# Altium footprint library Transistor_PcbLib.PcbLib: 6 footprints
Each footprint in its own frame and in the unit in brackets; x right, y up, seen from the top. Pads: shape width x height; smd on the part's side, far side on the other; paste and mask are expansions set on the pad; w line width, h text height; cw(c..) or ccw(c..) is an arc to the next point about the centre after c.
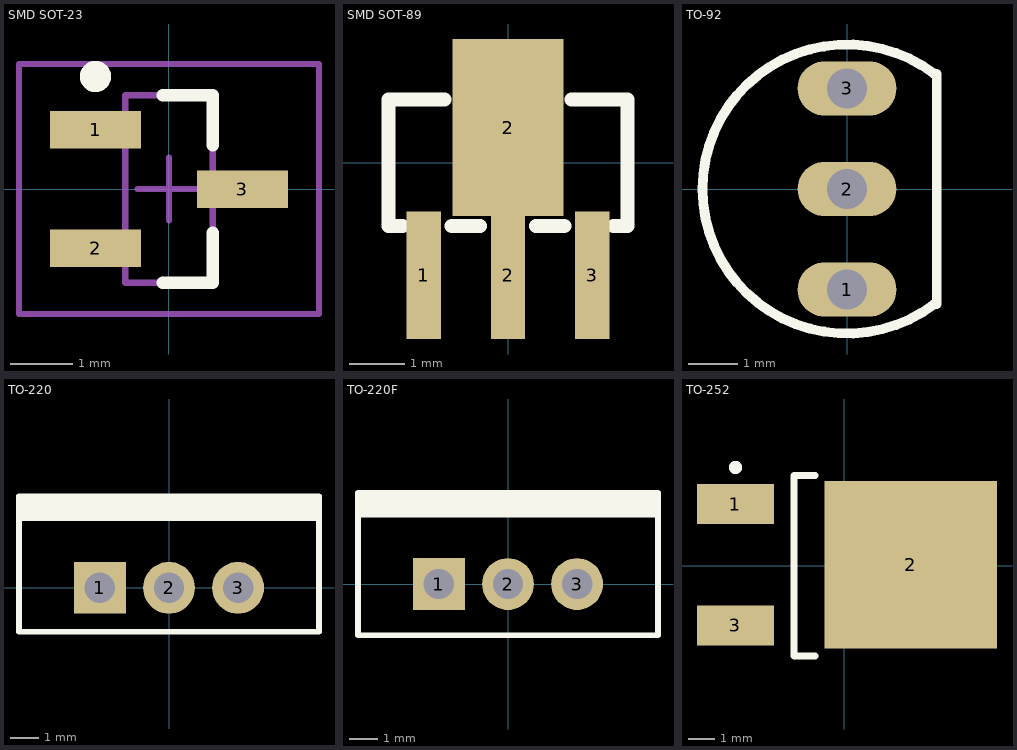
[diagram p0: the footprints below, top view; thin cyan lines are the x and y axes]

## SMD SOT-23 [mm] "SOT23, 3-Leads, Body"
height 1.14
pads (3):
  rect 1.45x0.6 smd: 1(-1.175,0.95) 2(-1.175,-0.95) 3(1.175,0)
Top Overlay:
  circle w0.25: c-1.175,1.8 r0.125
  lines w0.2: -0.1,-1.5 0.7,-1.5 0.7,-0.7 ; -0.1,1.5 0.7,1.5 0.7,0.7
Mechanical 13:
  lines w0.1: -0.7,-1.5 -0.7,1.5 0.7,1.5 0.7,-1.5 -0.7,-1.5
Mechanical 15:
  lines w0.1: -0.5,0 0.5,0 ; 0,-0.5 0,0.5 ; -2.4,-2 -2.4,2 2.4,2 2.4,-2 -2.4,-2
3D body: height 1.08, standoff 0, extent -1.32,-1.5 1.32,1.5

## SMD SOT-89 [mm] "SMD"
pads (4):
  rect 0.62x2.3 smd: 1(-1.524,-2.032) 2(0,-2.032) 3(1.524,-2.032)
  rect 2x3.2 smd: 2(0,0.635)
Top Overlay:
  lines w0.254: -1.905,-1.143 -2.159,-1.143 -2.159,1.143 -1.143,1.143 ; -1.016,-1.143 -0.508,-1.143 ; 0.508,-1.143 1.016,-1.143 ; 1.143,1.143 2.159,1.143 2.159,-1.143 1.905,-1.143
3D body: height 1.59, standoff -0.02, extent -2.318,-2.694 2.282,1.556

## TO-92 [mm]
pads (3):
  oval 2x1.1 hole 0.8: 1(0,-2.032) 2(0,0) 3(0,2.032)
Top Overlay:
  lines w0.2: 1.764,-2.328 cw(c0,0) 1.764,2.328 ; 1.814,-2.328 1.814,2.328
3D body: height 8.7, standoff -2.6, extent -2.3,-2.765 1.778,2.765

## TO-220 [mm]
pads (3):
  rect 1.8x1.8 hole 1.05: 1(-2.4,0)
  round 1.8 hole 1.05: 2(0,0) 3(2.4,0)
Top Overlay:
  rectangle: -5.207,2.413 5.207,3.175
  lines w0.2: -5.207,2.413 5.207,2.413 ; -5.207,-1.524 -5.207,3.175 5.207,3.175 5.207,-1.524 -5.207,-1.524
3D body: height 18.8, standoff -3.56, extent -5.08,-1.397 5.08,3.175

## TO-220F [mm]
pads (3):
  rect 1.8x1.8 hole 1.05: 1(-2.4,0)
  round 1.8 hole 1.05: 2(0,0) 3(2.4,0)
Top Overlay:
  rectangle: -5.207,2.413 5.207,3.175
  lines w0.2: -5.207,2.413 5.207,2.413 ; -5.207,-1.778 -5.207,3.175 5.207,3.175 5.207,-1.778 -5.207,-1.778
3D body: height 25.87, standoff -2.98, extent -5.07,-1.651 5.07,3.049

## TO-252 [mm]
height 4.69
pads (3):
  rect 2.9x1.5 smd: 1(-4.1,2.322) 3(-4.1,-2.25)
  rect 6.5x6.3 smd: 2(2.5,0.036)
Top Overlay:
  circle w0.25: c-4.1,3.7 r0.125
  lines w0.254: -1.1,-3.4 -1.9,-3.4 -1.9,3.4 -1.1,3.4
3D body: height 2.37, standoff -0.03, extent -4.998,-3.367 5.102,3.367